# Altium schematic symbol library CONNECTOR - USB.SchLib: 2 symbols
Pins are listed as number, name and electrical type; pins without a type are passive.

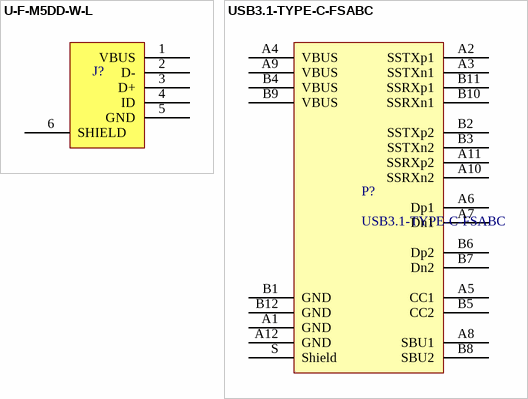
[diagram p0: symbols U-F-M5DD-W-L to USB3.1-TYPE-C-FSABC]

## U-F-M5DD-W-L
designator J?  (value not drawn)
USB - Micro B Female USB 2 5 5.06*7.59mm USB Connectors; Part Number: U-F-M5DD-W-L
footprint U-F-M5DD-W-L
pins: 1 VBUS, 2 D-, 3 D+, 4 ID, 5 GND, 6 SHIELD

## USB3.1-TYPE-C-FSABC
designator P?
USB - Type C Female 12 SMD USB Connectors; Manufacture: XKB Connectivity; Current Rating: 1A; Part Number: USB3.1-TYPE-C-FSABC; Gender: Female; Mounting Type: Surface Mount; ComponentLink1Description: Datasheet; ComponentLink1URL: https://datasheet.lcsc.com/lcsc/2002280211_XKB-Connectivity-USB3-1-TYPE-C-FSABC_C319140.pdf
footprint USB31-TYPE-C-FSABC
pins: A1 GND, A2 SSTXp1, A3 SSTXn1, A4 VBUS, A5 CC1, A6 Dp1, A7 Dn1, A8 SBU1, A9 VBUS, A10 SSRXn2, A11 SSRXp2, A12 GND, B1 GND, B2 SSTXp2, B3 SSTXn2, B4 VBUS, B5 CC2, B6 Dp2, B7 Dn2, B8 SBU2, B9 VBUS, B10 SSRXn1, B11 SSRXp1, B12 GND, S Shield